# Altium footprint library ExtPipe.PcbLib: 1 footprints
Each footprint in its own frame and in the unit in brackets; x right, y up, seen from the top. Pads: shape width x height; smd on the part's side, far side on the other; paste and mask are expansions set on the pad; w line width, h text height; cw(c..) or ccw(c..) is an arc to the next point about the centre after c.
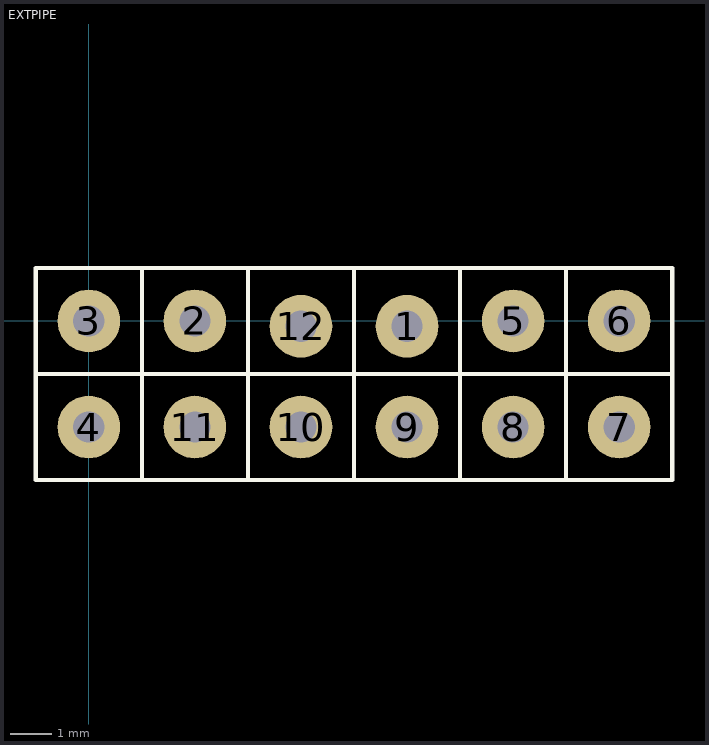
[diagram p0: the footprint, top view; thin cyan lines are the x and y axes]

## EXTPIPE [mm]
pads (12):
  round 1.5 hole 0.75: 1(7.62,-0.127) 2(2.54,0) 3(0,0) 4(0,-2.54) 5(10.16,0) 6(12.7,0) 7(12.7,-2.54) 8(10.16,-2.54) 9(7.62,-2.54) 10(5.08,-2.54) 11(2.54,-2.54) 12(5.08,-0.127)
Top Overlay:
  lines w0.1: -1.27,-1.27 13.97,-1.27 ; 1.27,-3.81 1.27,1.27 ; 3.81,-3.81 3.81,1.27 ; 6.35,-3.81 6.35,1.27 ; 8.89,-3.81 8.89,1.27 ; 11.43,-3.81 11.43,1.27 ; -1.27,-3.81 -1.27,1.143 -1.27,1.27 -1.143,1.27 13.97,1.27 13.97,-3.81 -1.27,-3.81